# Altium footprint library MCU.PcbLib: 1 footprints
Each footprint in its own frame and in the unit in brackets; x right, y up, seen from the top. Pads: shape width x height; smd on the part's side, far side on the other; paste and mask are expansions set on the pad; w line width, h text height; cw(c..) or ccw(c..) is an arc to the next point about the centre after c.
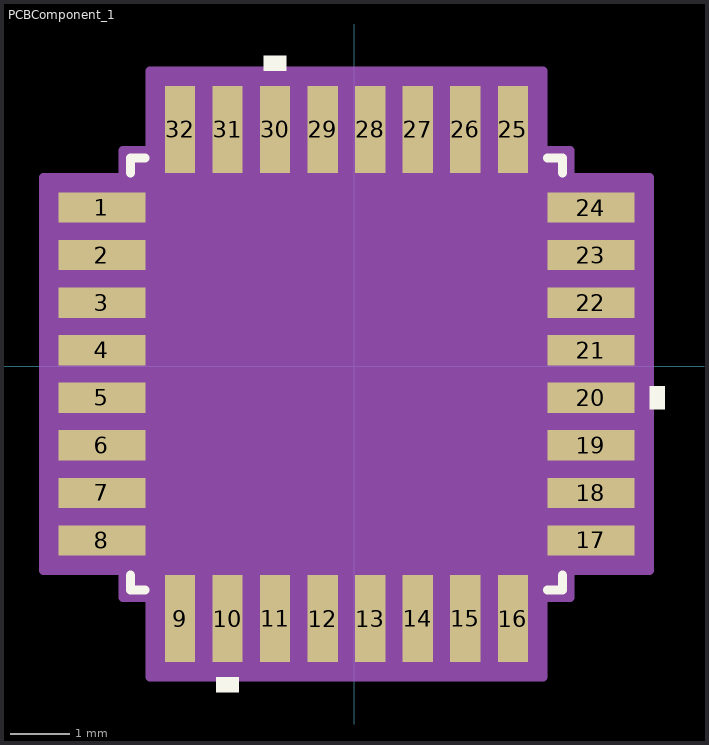
[diagram p0: the footprint, top view; thin cyan lines are the x and y axes]

## PCBComponent_1 [mil]
pads (32):
  rect 57.56x19.97 smd paste+0 mask+0: 1(-167,105.24) 2(-167,73.74) 3(-167,42.24) 4(-167,10.75) 5(-167,-20.75) 6(-167,-52.24) 7(-167,-83.74) 8(-167,-115.24) 17(157,-115.24) 18(157,-83.74) 19(157,-52.24) 20(157,-20.75) 21(157,10.75) 22(157,42.24) 23(157,73.74) 24(157,105.24)
  rect 19.97x57.56 smd paste+0 mask+0: 9(-115.24,-167) 10(-83.74,-167) 11(-52.24,-167) 12(-20.75,-167) 13(10.75,-167) 14(42.24,-167) 15(73.74,-167) 16(105.24,-167) 25(105.24,157) 26(73.74,157) 27(42.24,157) 28(10.75,157) 29(-20.75,157) 30(-52.24,157) 31(-83.74,157) 32(-115.24,157)
Top Overlay:
  region: -44.74,195.78 -59.74,195.78 -59.74,205.78 -44.74,205.78
  region: 195.78,-13.25 205.78,-13.25 205.78,-28.25 195.78,-28.25
  region: -76.24,-205.78 -91.24,-205.78 -91.24,-215.78 -76.24,-215.78
  lines w6: -148,-138.32 -148,-148 -138.32,-148 ; -148,128.32 -148,138 -138.32,138 ; 128.32,-148 138,-148 138,-138.32 ; 128.32,138 138,138 138,128.32
Mechanical 13:
  lines w1: -143,83 -93,133 ; -182,-124.24 -143,-124.24 -143,-106.24 -182,-106.24 -182,-124.24 ; -182,-92.74 -143,-92.74 -143,-74.74 -182,-74.74 -182,-92.74 ; -182,-61.24 -143,-61.24 -143,-43.24 -182,-43.24 -182,-61.24 ; -182,-29.75 -143,-29.75 -143,-11.75 -182,-11.75 -182,-29.75 ; -182,1.75 -143,1.75 -143,19.75 -182,19.75 -182,1.75 ; -182,33.24 -143,33.24 -143,51.24 -182,51.24 -182,33.24 ; -182,64.74 -143,64.74 -143,82.74 -182,82.74 -182,64.74 ; -182,96.24 -143,96.24 -143,114.24 -182,114.24 -182,96.24 ; -143,-143 -143,133 133,133 133,-143 -143,-143 ; -124.24,-182 -106.24,-182 -106.24,-143 -124.24,-143 -124.24,-182 ; -124.24,133 -124.24,172 -106.24,172 -106.24,133 -124.24,133 ; -92.74,-182 -74.74,-182 -74.74,-143 -92.74,-143 -92.74,-182 ; -92.74,133 -92.74,172 -74.74,172 -74.74,133 -92.74,133 ; -61.24,-182 -43.24,-182 -43.24,-143 -61.24,-143 -61.24,-182 ; -61.24,133 -61.24,172 -43.24,172 -43.24,133 -61.24,133 ; -29.75,-182 -11.75,-182 -11.75,-143 -29.75,-143 -29.75,-182 ; -29.75,133 -29.75,172 -11.75,172 -11.75,133 -29.75,133 ; 1.75,-182 19.75,-182 19.75,-143 1.75,-143 1.75,-182 ; 1.75,133 1.75,172 19.75,172 19.75,133 1.75,133 ; 33.24,-182 51.24,-182 51.24,-143 33.24,-143 33.24,-182 ; 33.24,133 33.24,172 51.24,172 51.24,133 33.24,133 ; 64.74,-182 82.74,-182 82.74,-143 64.74,-143 64.74,-182 ; 64.74,133 64.74,172 82.74,172 82.74,133 64.74,133 ; 96.24,-182 114.24,-182 114.24,-143 96.24,-143 96.24,-182 ; 96.24,133 96.24,172 114.24,172 114.24,133 96.24,133 ; 133,-124.24 172,-124.24 172,-106.24 133,-106.24 133,-124.24 ; 133,-92.74 172,-92.74 172,-74.74 133,-74.74 133,-92.74 ; 133,-61.24 172,-61.24 172,-43.24 133,-43.24 133,-61.24 ; 133,-29.75 172,-29.75 172,-11.75 133,-11.75 133,-29.75 ; 133,1.75 172,1.75 172,19.75 133,19.75 133,1.75 ; 133,33.24 172,33.24 172,51.24 133,51.24 133,33.24 ; 133,64.74 172,64.74 172,82.74 133,82.74 133,64.74 ; 133,96.24 172,96.24 172,114.24 133,114.24 133,96.24
  text "*" at -140.5,95.98 h50
Mechanical 15:
  region: -135.22,-153 -153,-153 -153,-135.22 -205.78,-135.22 -205.78,125.22 -153,125.22 -153,143 -135.22,143 -135.22,195.78 125.22,195.78 125.22,143 143,143 143,125.22 195.78,125.22 195.78,-135.22 143,-135.22 143,-153 125.22,-153 125.22,-205.78 -135.22,-205.78
  lines w6: -205.78,-135.22 -205.78,125.22 -153,125.22 -153,143 -135.22,143 -135.22,195.78 125.22,195.78 125.22,143 143,143 143,125.22 195.78,125.22 195.78,-135.22 143,-135.22 143,-153 125.22,-153 125.22,-205.78 -135.22,-205.78 -135.22,-153 -153,-153 -153,-135.22 -205.78,-135.22
3D body: height 10, standoff 0, extent -5,-5 5,5
3D body "LQFP-32.step": height 63.11, standoff 0, extent -182.01,-182.01 172.01,172.01